# EAGLE library part PIC8PIN (library MyLib)
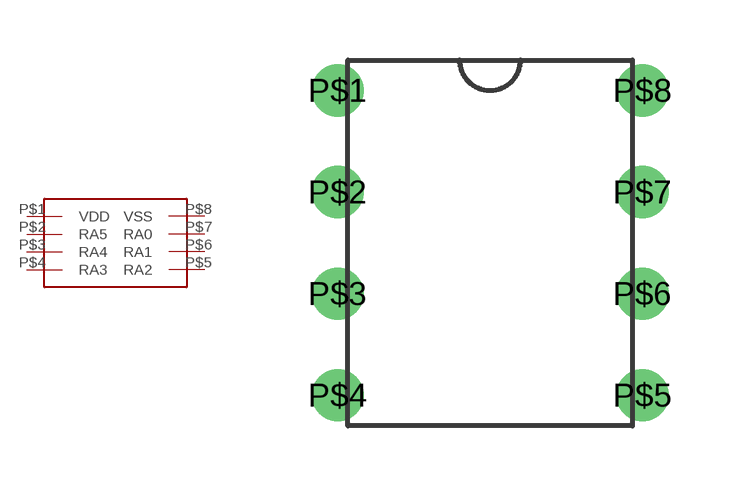
[diagram p6: symbol with the pads of PIC8PIN; footprint PIC8PIN]

Designator prefix -

## PIC8PIN  [PIC8PIN]
P$1  VDD
P$2  RA5
P$3  RA4
P$4  RA3
P$5  RA2
P$6  RA1
P$7  RA0
P$8  VSS

## Footprint PIC8PIN (pad centres in mm)
drill 0.8: P$1 -3.81,3.81; P$2 -3.81,1.27; P$3 -3.81,-1.27; P$4 -3.81,-3.81; P$5 3.81,-3.81; P$6 3.81,-1.27; P$7 3.81,1.27; P$8 3.81,3.81